# EAGLE library part EB-500 (library X893)
GPS reciever http://www.transystem.com.tw/files/EB-500%20Data%20Sheet%20V1.2.pdf
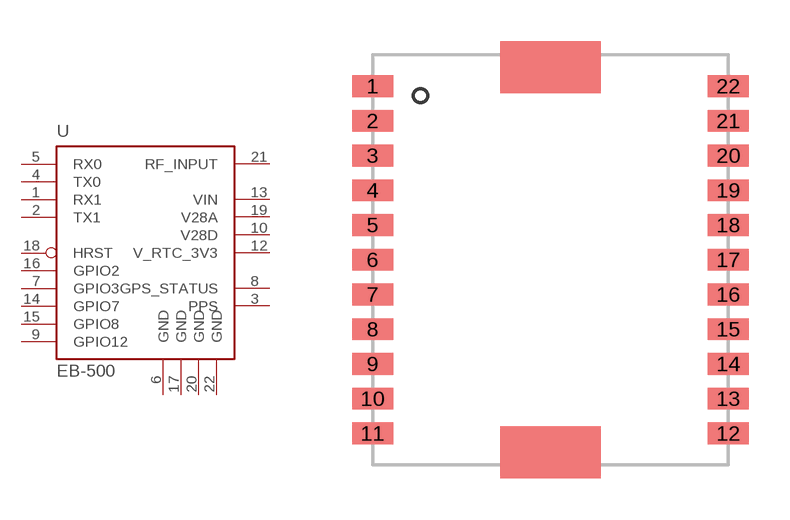
[diagram p13: symbol with the pads of EB-500; footprint EB-500]

Designator prefix U

## EB-500  [EB-500]
1  RX1  in
2  TX1  out
3  PPS  out
4  TX0  out
5  RX0  in
6  GND  sup
7  GPIO3
8  GPS_STATUS  out
9  GPIO12
10  V28D  pas
11  NC  nc
12  V_RTC_3V3  pas
13  VIN  pas
14  GPIO7
15  GPIO8
16  GPIO2
17  GND  sup
18  HRST  in
19  V28A  pas
20  GND  sup
21  RF_INPUT  pas
22  GND  sup

## Footprint EB-500 (pad centres in mm)
smd 1.5 x 0.8: 1 -6.5,6.35; 2 -6.5,5.08; 3 -6.5,3.81; 4 -6.5,2.54; 5 -6.5,1.27; 6 -6.5,0; 7 -6.5,-1.27; 8 -6.5,-2.54; 9 -6.5,-3.81; 10 -6.5,-5.08; 11 -6.5,-6.35; 12 6.5,-6.35; 13 6.5,-5.08; 14 6.5,-3.81; 15 6.5,-2.54; 16 6.5,-1.27; 17 6.5,0; 18 6.5,1.27; 19 6.5,2.54; 20 6.5,3.81; 21 6.5,5.08; 22 6.5,6.35